# Altium footprint library PcbLibHGCD2.PcbLib: 3 footprints
Each footprint in its own frame and in the unit in brackets; x right, y up, seen from the top. Pads: shape width x height; smd on the part's side, far side on the other; paste and mask are expansions set on the pad; w line width, h text height; cw(c..) or ccw(c..) is an arc to the next point about the centre after c.
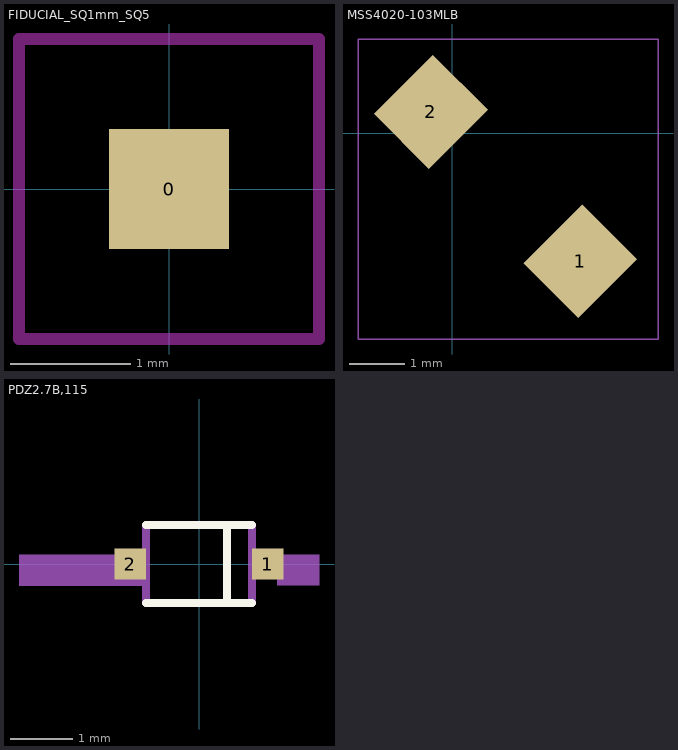
[diagram p0: the footprints below, top view; thin cyan lines are the x and y axes]

## FIDUCIAL_SQ1mm_SQ5 [mm]
pads (1):
  rect 1x1 smd paste-0.5 mask+0.75: 0(0,0)
Top Layer keep-out:
  lines w0.1: -1.25,-1.25 -1.25,1.25 1.25,1.25 1.25,-1.25 -1.25,-1.25

## MSS4020-103MLB [mm]
pads (2):
  rect 1.5x1.4 smd rot 45: 1(2.3,-2.3) 2(-0.387,0.387)
Mechanical 1:
  lines w0.025: -1.7,-3.7 -1.7,1.7 3.7,1.7 3.7,-3.7 -1.7,-3.7 ; 1.5,0 1.5,0

## PDZ2.7B,115 [mm]
pads (2):
  rect 0.5x0.5 smd: 1(1.1,0) 2(-1.1,0)
Top Overlay:
  lines w0.127: -0.85,-0.625 0.45,-0.625 ; -0.85,0.625 0.45,0.625 ; 0.85,-0.625 0.45,-0.625 ; 0.85,0.625 0.45,0.625 ; 0.45,-0.625 0.45,0.625
Mechanical 1:
  region: -2.879,0.15 -0.85,0.15 -0.85,-0.345 -2.879,-0.345
  region: 1.25,-0.339 1.919,-0.339 1.919,0.15 1.25,0.15
  lines w0.127: -0.85,-0.625 -0.85,0.625 ; 0.85,-0.625 0.85,0.625